# Altium footprint library dip_switches.PcbLib: 18 footprints (part 1 of 2)
Each footprint in its own frame and in the unit in brackets; x right, y up, seen from the top. Pads: shape width x height; smd on the part's side, far side on the other; paste and mask are expansions set on the pad; w line width, h text height; cw(c..) or ccw(c..) is an arc to the next point about the centre after c.
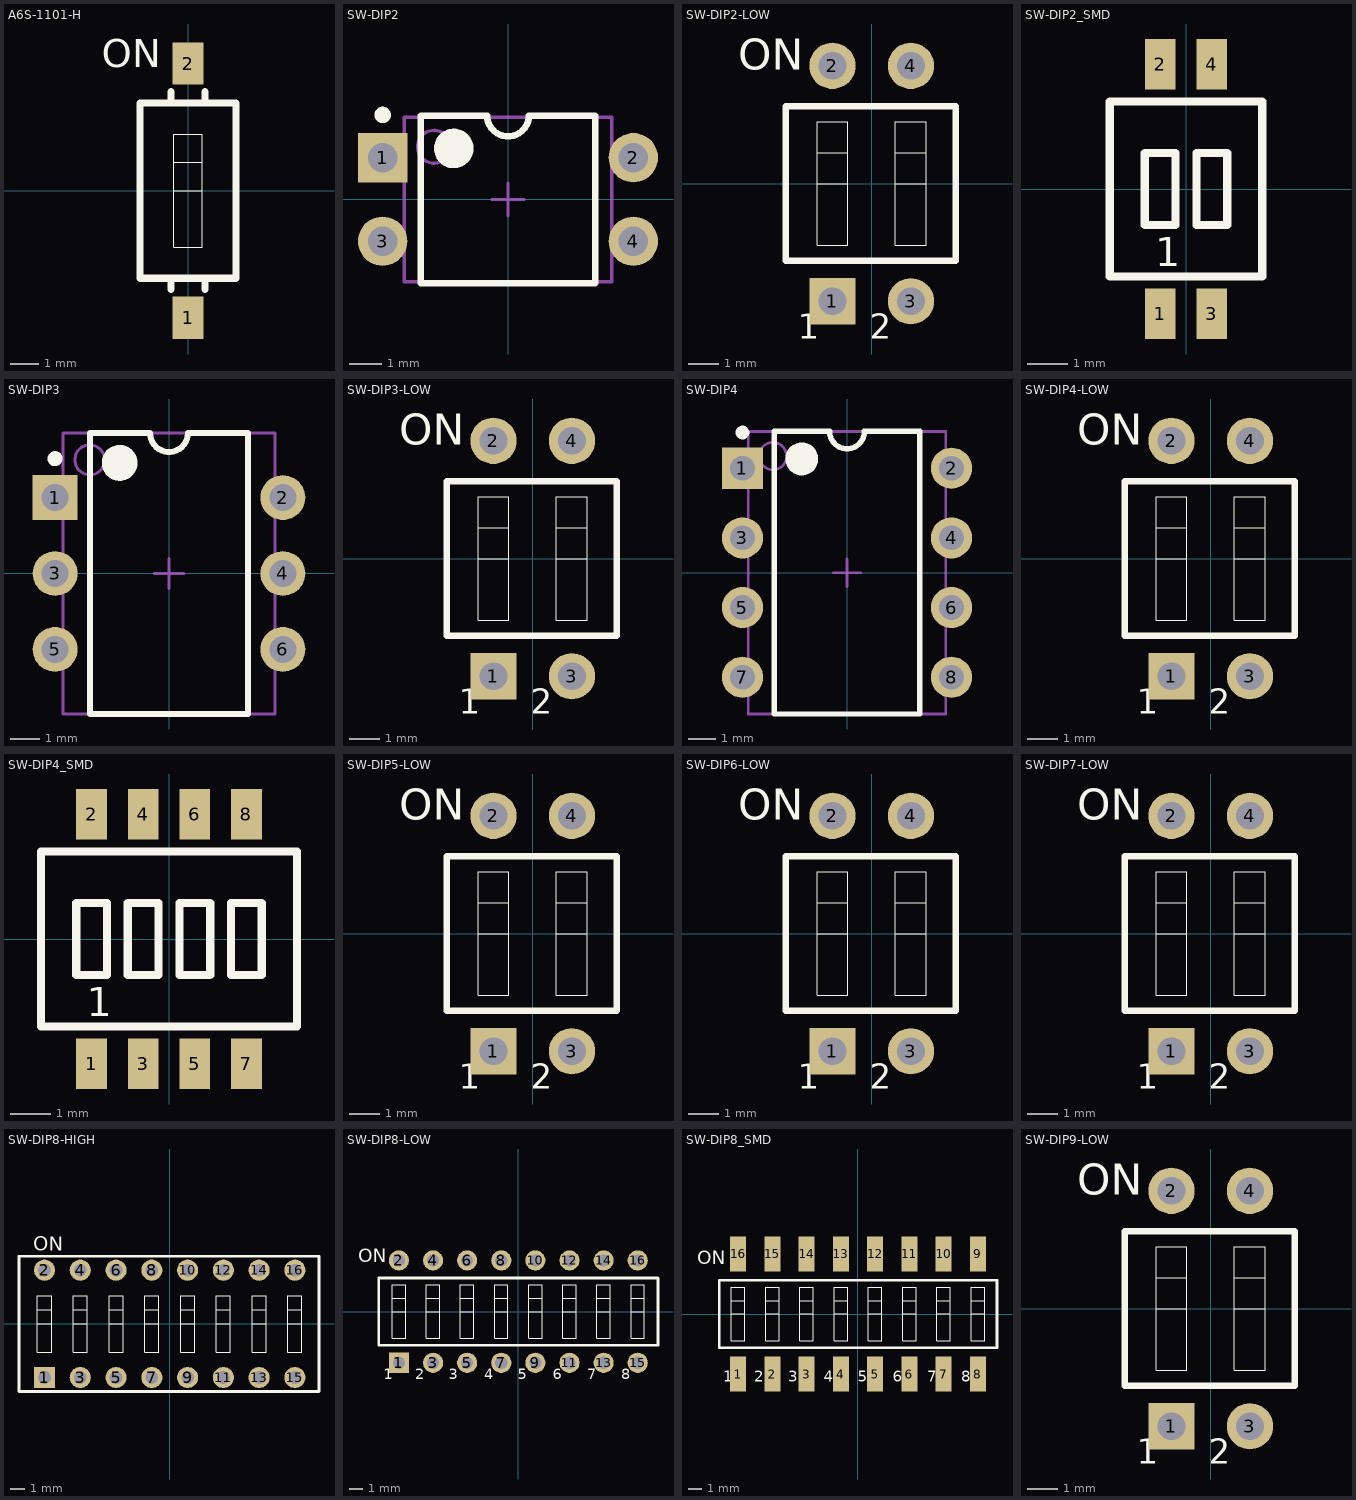
[diagram p0: the footprints below, top view; thin cyan lines are the x and y axes]

## A6S-1101-H [mm]
pads (2):
  rect 1.1x1.5 smd: 1(0,-4.5) 2(0,4.5)
Top Overlay:
  lines w0.025: -0.5,0 0.5,0 ; -0.5,1 0.5,1 ; -0.5,-2 -0.5,2 0.5,2 0.5,-2 -0.5,-2
  lines w0.254: -0.6,-3.5 -0.6,-3.1 ; -0.6,3.5 -0.6,3.1 ; 0.6,-3.5 0.6,-3.1 1.7,-3.1 1.7,3.1 0.6,3.1 ; 0.6,3.5 0.6,3.1 ; 0.7,-3.1 -0.6,-3.1 ; -0.6,-3.1 -1.7,-3.1 -1.7,3.1 -0.6,3.1 ; -0.6,3.1 0.6,3.1
  text "ON" at -3.048,4.368 h1
3D body "19707.stp": height 3.7, standoff 0, extent -1.74,-4.9 1.74,4.9

## SW-DIP2 [mm] "DIP; 4 Leads; Row Spacing 7.62 mm; Pitch 2.54 mm"
height 5.6
pads (4):
  rect 1.5x1.5 hole 0.9: 1(-3.81,1.27)
  round 1.5 hole 0.9: 2(3.81,1.27) 3(-3.81,-1.27) 4(3.81,-1.27)
Top Overlay:
  circle w0.25: c-3.81,2.57 r0.125
  circle w0.6: c-1.65,1.55 r0.3
  lines w0.2: -2.65,-2.55 -2.65,2.55 -0.635,2.55 ccw(c0,2.55) 0.635,2.55 2.65,2.55 2.65,-2.55 -2.65,-2.55
Mechanical 13:
  circle w0.1: c-2.25,1.6 r0.5
  lines w0.1: -3.15,-2.5 -3.15,2.5 3.15,2.5 3.15,-2.5 -3.15,-2.5
Mechanical 15:
  lines w0.1: -0.5,0 0.5,0 ; 0,-0.5 0,0.5
3D body: height 5.6, standoff 0, extent -3.15,-2.5 3.15,2.5

## SW-DIP2-LOW [mm] "DIP Switch; 4 Leads ANSMANN Slide switch, low profile, DIP - A-DIL-H09G"
height 5.06
pads (4):
  rect 1.5x1.5 hole 0.9: 1(-1.27,-3.81)
  round 1.5 hole 0.9: 2(-1.27,3.81) 3(1.27,-3.81) 4(1.27,3.81)
Top Overlay:
  lines w0.025: -1.77,0 -0.77,0 ; -1.77,1 -0.77,1 ; 0.77,0 1.77,0 ; 0.77,1 1.77,1 ; -1.77,-2 -0.77,-2 -0.77,2 -1.77,2 -1.77,-2 ; 0.77,-2 1.77,-2 1.77,2 0.77,2 0.77,-2
  lines w0.2: -2.78,-2.5 2.72,-2.5 2.72,2.5 -2.78,2.5 -2.78,-2.5
  text "ON" at -4.318,3.678 h1
  text "1" at -2.386,-5.032 h0.8
  text "2" at -0.061,-5.032 h0.8
3D body "switch_a-dil-h02g.stp": height 4.9, standoff -2.7, extent -2.78,-3.935 2.74,3.935

## SW-DIP2_SMD [mil] "DIP-Switch; 4 Pos; Pitch 1.27 mm"
height 60
pads (4):
  rect 30x49 smd: 1(-25,-121) 2(-25,121) 3(25,-121) 4(25,121)
Top Overlay:
  lines w7.87: -74,-85 -74,85 74,85 74,-85 -74,-85 ; -40,-35 -40,35 -10,35 -10,-35 -40,-35 ; 10,-35 40,-35 40,35 10,35 10,-35
  text "1" at -30,-75 h28

## SW-DIP3 [mm] "DIP; 6 Leads; Row Spacing 7.62 mm; Pitch 2.54 mm"
height 5.46
pads (6):
  rect 1.5x1.5 hole 0.9: 1(-3.81,2.54)
  round 1.5 hole 0.9: 2(3.81,2.54) 3(-3.81,0) 4(3.81,0) 5(-3.81,-2.54) 6(3.81,-2.54)
Top Overlay:
  circle w0.25: c-3.81,3.84 r0.125
  circle w0.6: c-1.65,3.7 r0.3
  lines w0.2: -2.65,-4.7 -2.65,4.7 -0.635,4.7 ccw(c0,4.7) 0.635,4.7 2.65,4.7 2.65,-4.7 -2.65,-4.7
Mechanical 13:
  circle w0.1: c-2.65,3.8 r0.5
  lines w0.1: -3.55,-4.7 -3.55,4.7 3.55,4.7 3.55,-4.7 -3.55,-4.7
Mechanical 15:
  lines w0.1: -0.5,0 0.5,0 ; 0,-0.5 0,0.5
3D body "19621.stp": height 7.3, standoff -3, extent -4.95,-4.59 4.95,4.59

## SW-DIP3-LOW [mm] "DIP Switch; 4 Leads"
height 5.06
pads (4):
  rect 1.5x1.5 hole 0.9: 1(-1.27,-3.81)
  round 1.5 hole 0.9: 2(-1.27,3.81) 3(1.27,-3.81) 4(1.27,3.81)
Top Overlay:
  lines w0.025: -1.77,0 -0.77,0 ; -1.77,1 -0.77,1 ; 0.77,0 1.77,0 ; 0.77,1 1.77,1 ; -1.77,-2 -0.77,-2 -0.77,2 -1.77,2 -1.77,-2 ; 0.77,-2 1.77,-2 1.77,2 0.77,2 0.77,-2
  lines w0.2: -2.78,-2.5 2.72,-2.5 2.72,2.5 -2.78,2.5 -2.78,-2.5
  text "ON" at -4.318,3.678 h1
  text "1" at -2.386,-5.032 h0.8
  text "2" at -0.061,-5.032 h0.8
3D body "switch_a-dil-h03g.stp": height 4.9, standoff -2.7, extent -2.13,-3.927 5.93,3.943

## SW-DIP4 [mm] "DIP; 8 Leads; Row Spacing 7.62 mm; Pitch 2.54 mm"
height 5.08
pads (8):
  rect 1.5x1.5 hole 0.9: 1(-3.81,3.81)
  round 1.5 hole 0.9: 2(3.81,3.81) 3(-3.81,1.27) 4(3.81,1.27) 5(-3.81,-1.27) 6(3.81,-1.27) 7(-3.81,-3.81) 8(3.81,-3.81)
Top Overlay:
  circle w0.25: c-3.81,5.11 r0.125
  circle w0.6: c-1.65,4.15 r0.3
  lines w0.2: -2.65,-5.15 -2.65,5.15 -0.635,5.15 ccw(c0,5.15) 0.635,5.15 2.65,5.15 2.65,-5.15 -2.65,-5.15
Mechanical 13:
  circle w0.1: c-2.7,4.25 r0.5
  lines w0.1: -3.6,-5.15 -3.6,5.15 3.6,5.15 3.6,-5.15 -3.6,-5.15
Mechanical 15:
  lines w0.1: -0.5,0 0.5,0 ; 0,-0.5 0,0.5
3D body: height 5.08, standoff 0, extent -3.6,-5.15 3.6,5.15

## SW-DIP4-LOW [mm] "DIP Switch; 4 Leads"
height 5.06
pads (4):
  rect 1.5x1.5 hole 0.9: 1(-1.27,-3.81)
  round 1.5 hole 0.9: 2(-1.27,3.81) 3(1.27,-3.81) 4(1.27,3.81)
Top Overlay:
  lines w0.025: -1.77,0 -0.77,0 ; -1.77,1 -0.77,1 ; 0.77,0 1.77,0 ; 0.77,1 1.77,1 ; -1.77,-2 -0.77,-2 -0.77,2 -1.77,2 -1.77,-2 ; 0.77,-2 1.77,-2 1.77,2 0.77,2 0.77,-2
  lines w0.2: -2.78,-2.5 2.72,-2.5 2.72,2.5 -2.78,2.5 -2.78,-2.5
  text "ON" at -4.318,3.678 h1
  text "1" at -2.386,-5.032 h0.8
  text "2" at -0.061,-5.032 h0.8
3D body "switch_a-dil-h04g.stp": height 4.9, standoff -2.7, extent -2.3,-9.627 8.3,-1.757

## SW-DIP4_SMD [mil] "DIP-Switch; 4 Pos; Pitch 1.27 mm"
height 60
pads (8):
  rect 30x49 smd: 1(-75,-121) 2(-75,121) 3(-25,-121) 4(-25,121) 5(25,-121) 6(25,121) 7(75,-121) 8(75,121)
Top Overlay:
  lines w7.87: -124,-85 124,-85 124,85 -124,85 -124,-85 ; -90,-35 -60,-35 -60,35 -90,35 -90,-35 ; -40,-35 -40,35 -10,35 -10,-35 -40,-35 ; 10,-35 10,35 40,35 40,-35 10,-35 ; 60,-35 60,35 90,35 90,-35 60,-35
  text "1" at -80,-75 h28
3D body "User Library-Diptronics_DHN4.STEP": height 59.06, standoff 0, extent -123.42,-137.34 125,137.34

## SW-DIP5-LOW [mm] "DIP Switch; 4 Leads"
height 5.06
pads (4):
  rect 1.5x1.5 hole 0.9: 1(-1.27,-3.81)
  round 1.5 hole 0.9: 2(-1.27,3.81) 3(1.27,-3.81) 4(1.27,3.81)
Top Overlay:
  lines w0.025: -1.77,0 -0.77,0 ; -1.77,1 -0.77,1 ; 0.77,0 1.77,0 ; 0.77,1 1.77,1 ; -1.77,-2 -0.77,-2 -0.77,2 -1.77,2 -1.77,-2 ; 0.77,-2 1.77,-2 1.77,2 0.77,2 0.77,-2
  lines w0.2: -2.78,-2.5 2.72,-2.5 2.72,2.5 -2.78,2.5 -2.78,-2.5
  text "ON" at -4.318,3.678 h1
  text "1" at -2.386,-5.032 h0.8
  text "2" at -0.061,-5.032 h0.8
3D body "switch_a-dil-h05g.stp": height 4.9, standoff -2.7, extent -4.27,-6.827 8.87,1.043

## SW-DIP6-LOW [mm] "DIP Switch; 4 Leads"
height 5.06
pads (4):
  rect 1.5x1.5 hole 0.9: 1(-1.27,-3.81)
  round 1.5 hole 0.9: 2(-1.27,3.81) 3(1.27,-3.81) 4(1.27,3.81)
Top Overlay:
  lines w0.025: -1.77,0 -0.77,0 ; -1.77,1 -0.77,1 ; 0.77,0 1.77,0 ; 0.77,1 1.77,1 ; -1.77,-2 -0.77,-2 -0.77,2 -1.77,2 -1.77,-2 ; 0.77,-2 1.77,-2 1.77,2 0.77,2 0.77,-2
  lines w0.2: -2.78,-2.5 2.72,-2.5 2.72,2.5 -2.78,2.5 -2.78,-2.5
  text "ON" at -4.318,3.678 h1
  text "1" at -2.386,-5.032 h0.8
  text "2" at -0.061,-5.032 h0.8
3D body "switch_a-dil-h06g.stp": height 4.9, standoff -2.7, extent -8.14,-6.027 7.54,1.843

## SW-DIP7-LOW [mm] "DIP Switch; 4 Leads"
height 5.06
pads (4):
  rect 1.5x1.5 hole 0.9: 1(-1.27,-3.81)
  round 1.5 hole 0.9: 2(-1.27,3.81) 3(1.27,-3.81) 4(1.27,3.81)
Top Overlay:
  lines w0.025: -1.77,0 -0.77,0 ; -1.77,1 -0.77,1 ; 0.77,0 1.77,0 ; 0.77,1 1.77,1 ; -1.77,-2 -0.77,-2 -0.77,2 -1.77,2 -1.77,-2 ; 0.77,-2 1.77,-2 1.77,2 0.77,2 0.77,-2
  lines w0.2: -2.78,-2.5 2.72,-2.5 2.72,2.5 -2.78,2.5 -2.78,-2.5
  text "ON" at -4.318,3.678 h1
  text "1" at -2.386,-5.032 h0.8
  text "2" at -0.061,-5.032 h0.8
3D body "switch_a-dil-h07g.stp": height 4.9, standoff -2.7, extent -9.01,-5.827 9.21,2.043

## SW-DIP8-HIGH [mm] "DIP Switch; 16 Leads"
height 5.06
pads (16):
  rect 1.5x1.5 hole 0.9: 1(-8.89,-3.81)
  round 1.5 hole 0.9: 2(-8.89,3.81) 3(-6.35,-3.81) 4(-6.35,3.81) 5(-3.81,-3.81) 6(-3.81,3.81) 7(-1.27,-3.81) 8(-1.27,3.81) 9(1.27,-3.81) 10(1.27,3.81) 11(3.81,-3.81) 12(3.81,3.81) 13(6.35,-3.81) 14(6.35,3.81) 15(8.89,-3.81) 16(8.89,3.81)
Top Overlay:
  lines w0.025: -9.39,0 -8.39,0 ; -9.39,1 -8.39,1 ; -6.85,0 -5.85,0 ; -6.85,1 -5.85,1 ; -4.31,0 -3.31,0 ; -4.31,1 -3.31,1 ; -1.77,0 -0.77,0 ; -1.77,1 -0.77,1 ; 0.77,0 1.77,0 ; 0.77,1 1.77,1 ; 3.31,0 4.31,0 ; 3.31,1 4.31,1 ; 5.85,0 6.85,0 ; 5.85,1 6.85,1 ; 8.39,0 9.39,0 ; 8.39,1 9.39,1 ; -9.39,-2 -8.39,-2 -8.39,2 -9.39,2 -9.39,-2 ; -6.85,-2 -5.85,-2 -5.85,2 -6.85,2 -6.85,-2 ; -4.31,-2 -3.31,-2 -3.31,2 -4.31,2 -4.31,-2 ; -1.77,-2 -0.77,-2 -0.77,2 -1.77,2 -1.77,-2 ; 0.77,-2 1.77,-2 1.77,2 0.77,2 0.77,-2 ; 3.31,-2 4.31,-2 4.31,2 3.31,2 3.31,-2 ; 5.85,-2 6.85,-2 6.85,2 5.85,2 5.85,-2 ; 8.39,-2 9.39,-2 9.39,2 8.39,2 8.39,-2
  lines w0.2: -10.7,-4.8 10.6,-4.8 10.6,4.8 -10.7,4.8 -10.7,-4.8
  text "ON" at -9.7,5.2 h1
3D body "switch_ad-dil-sw_08-n.stp": height 6.3, standoff -4, extent -10.7,-4.8 10.62,4.8

## SW-DIP8-LOW [mm] "DIP Switch; 16 Leads"
height 5.06
pads (16):
  rect 1.5x1.5 hole 0.9: 1(-8.89,-3.81)
  round 1.5 hole 0.9: 2(-8.89,3.81) 3(-6.35,-3.81) 4(-6.35,3.81) 5(-3.81,-3.81) 6(-3.81,3.81) 7(-1.27,-3.81) 8(-1.27,3.81) 9(1.27,-3.81) 10(1.27,3.81) 11(3.81,-3.81) 12(3.81,3.81) 13(6.35,-3.81) 14(6.35,3.81) 15(8.89,-3.81) 16(8.89,3.81)
Top Overlay:
  lines w0.025: -9.39,0 -8.39,0 ; -9.39,1 -8.39,1 ; -6.85,0 -5.85,0 ; -6.85,1 -5.85,1 ; -4.31,0 -3.31,0 ; -4.31,1 -3.31,1 ; -1.77,0 -0.77,0 ; -1.77,1 -0.77,1 ; 0.77,0 1.77,0 ; 0.77,1 1.77,1 ; 3.31,0 4.31,0 ; 3.31,1 4.31,1 ; 5.85,0 6.85,0 ; 5.85,1 6.85,1 ; 8.39,0 9.39,0 ; 8.39,1 9.39,1 ; -9.39,-2 -8.39,-2 -8.39,2 -9.39,2 -9.39,-2 ; -6.85,-2 -5.85,-2 -5.85,2 -6.85,2 -6.85,-2 ; -4.31,-2 -3.31,-2 -3.31,2 -4.31,2 -4.31,-2 ; -1.77,-2 -0.77,-2 -0.77,2 -1.77,2 -1.77,-2 ; 0.77,-2 1.77,-2 1.77,2 0.77,2 0.77,-2 ; 3.31,-2 4.31,-2 4.31,2 3.31,2 3.31,-2 ; 5.85,-2 6.85,-2 6.85,2 5.85,2 5.85,-2 ; 8.39,-2 9.39,-2 9.39,2 8.39,2 8.39,-2
  lines w0.2: -10.4,-2.5 10.4,-2.5 10.4,2.5 -10.4,2.5 -10.4,-2.5
  text "8" at 7.659,-5.032 h0.8
  text "7" at 5.119,-5.032 h0.8
  text "ON" at -11.938,3.678 h1
  text "1" at -10.006,-5.032 h0.8
  text "2" at -7.681,-5.032 h0.8
  text "3" at -5.181,-5.032 h0.8
  text "4" at -2.556,-5.032 h0.8
  text "5" at -0.031,-5.032 h0.8
  text "6" at 2.569,-5.032 h0.8
3D body "switch_a-dil-h08g.stp": height 4.9, standoff -2.7, extent -10.375,-3.935 10.385,3.935

## SW-DIP8_SMD [mm] "DIP Switch; 16 Leads"
height 5.06
pads (16):
  rect 1.2x2.6 smd: 1(-8.89,-4.45) 2(-6.35,-4.45) 3(-3.81,-4.45) 4(-1.27,-4.45) 5(1.27,-4.45) 6(3.81,-4.45) 7(6.35,-4.45) 8(8.89,-4.45) 9(8.89,4.45) 10(6.35,4.45) 11(3.81,4.45) 12(1.27,4.45) 13(-1.27,4.45) 14(-3.81,4.45) 15(-6.35,4.45) 16(-8.89,4.45)
Top Overlay:
  lines w0.025: -9.39,0 -8.39,0 ; -9.39,1 -8.39,1 ; -6.85,0 -5.85,0 ; -6.85,1 -5.85,1 ; -4.31,0 -3.31,0 ; -4.31,1 -3.31,1 ; -1.77,0 -0.77,0 ; -1.77,1 -0.77,1 ; 0.77,0 1.77,0 ; 0.77,1 1.77,1 ; 3.31,0 4.31,0 ; 3.31,1 4.31,1 ; 5.85,0 6.85,0 ; 5.85,1 6.85,1 ; 8.39,0 9.39,0 ; 8.39,1 9.39,1 ; -9.39,-2 -9.39,2 -8.39,2 -8.39,-2 -9.39,-2 ; -6.85,-2 -6.85,2 -5.85,2 -5.85,-2 -6.85,-2 ; -4.31,-2 -4.31,2 -3.31,2 -3.31,-2 -4.31,-2 ; -1.77,-2 -1.77,2 -0.77,2 -0.77,-2 -1.77,-2 ; 0.77,-2 0.77,2 1.77,2 1.77,-2 0.77,-2 ; 3.31,-2 3.31,2 4.31,2 4.31,-2 3.31,-2 ; 5.85,-2 5.85,2 6.85,2 6.85,-2 5.85,-2 ; 8.39,-2 8.39,2 9.39,2 9.39,-2 8.39,-2
  lines w0.2: -10.29,-2.5 -10.29,2.5 10.31,2.5 10.31,-2.5 -10.29,-2.5
  text "6" at 2.569,-5.032 h0.8
  text "5" at -0.031,-5.032 h0.8
  text "4" at -2.556,-5.032 h0.8
  text "3" at -5.181,-5.032 h0.8
  text "2" at -7.681,-5.032 h0.8
  text "1" at -10.006,-5.032 h0.8
  text "ON" at -11.938,3.678 h1
  text "7" at 5.119,-5.032 h0.8
  text "8" at 7.659,-5.032 h0.8

## SW-DIP9-LOW [mm] "DIP Switch; 4 Leads"
height 5.06
pads (4):
  rect 1.5x1.5 hole 0.9: 1(-1.27,-3.81)
  round 1.5 hole 0.9: 2(-1.27,3.81) 3(1.27,-3.81) 4(1.27,3.81)
Top Overlay:
  lines w0.025: -1.77,0 -0.77,0 ; -1.77,1 -0.77,1 ; 0.77,0 1.77,0 ; 0.77,1 1.77,1 ; -1.77,-2 -0.77,-2 -0.77,2 -1.77,2 -1.77,-2 ; 0.77,-2 1.77,-2 1.77,2 0.77,2 0.77,-2
  lines w0.2: -2.78,-2.5 2.72,-2.5 2.72,2.5 -2.78,2.5 -2.78,-2.5
  text "ON" at -4.318,3.678 h1
  text "1" at -2.386,-5.032 h0.8
  text "2" at -0.061,-5.032 h0.8
3D body "switch_a-dil-h09g.stp": height 4.9, standoff -2.7, extent -11.75,-5.627 11.55,2.243